# EAGLE library part XC6SLX9-3TQG144C (library Cynara-IntegratedCircuits)
Xilinx Spartan-6 in 144 pin Thin Quad Flat-Pack Package
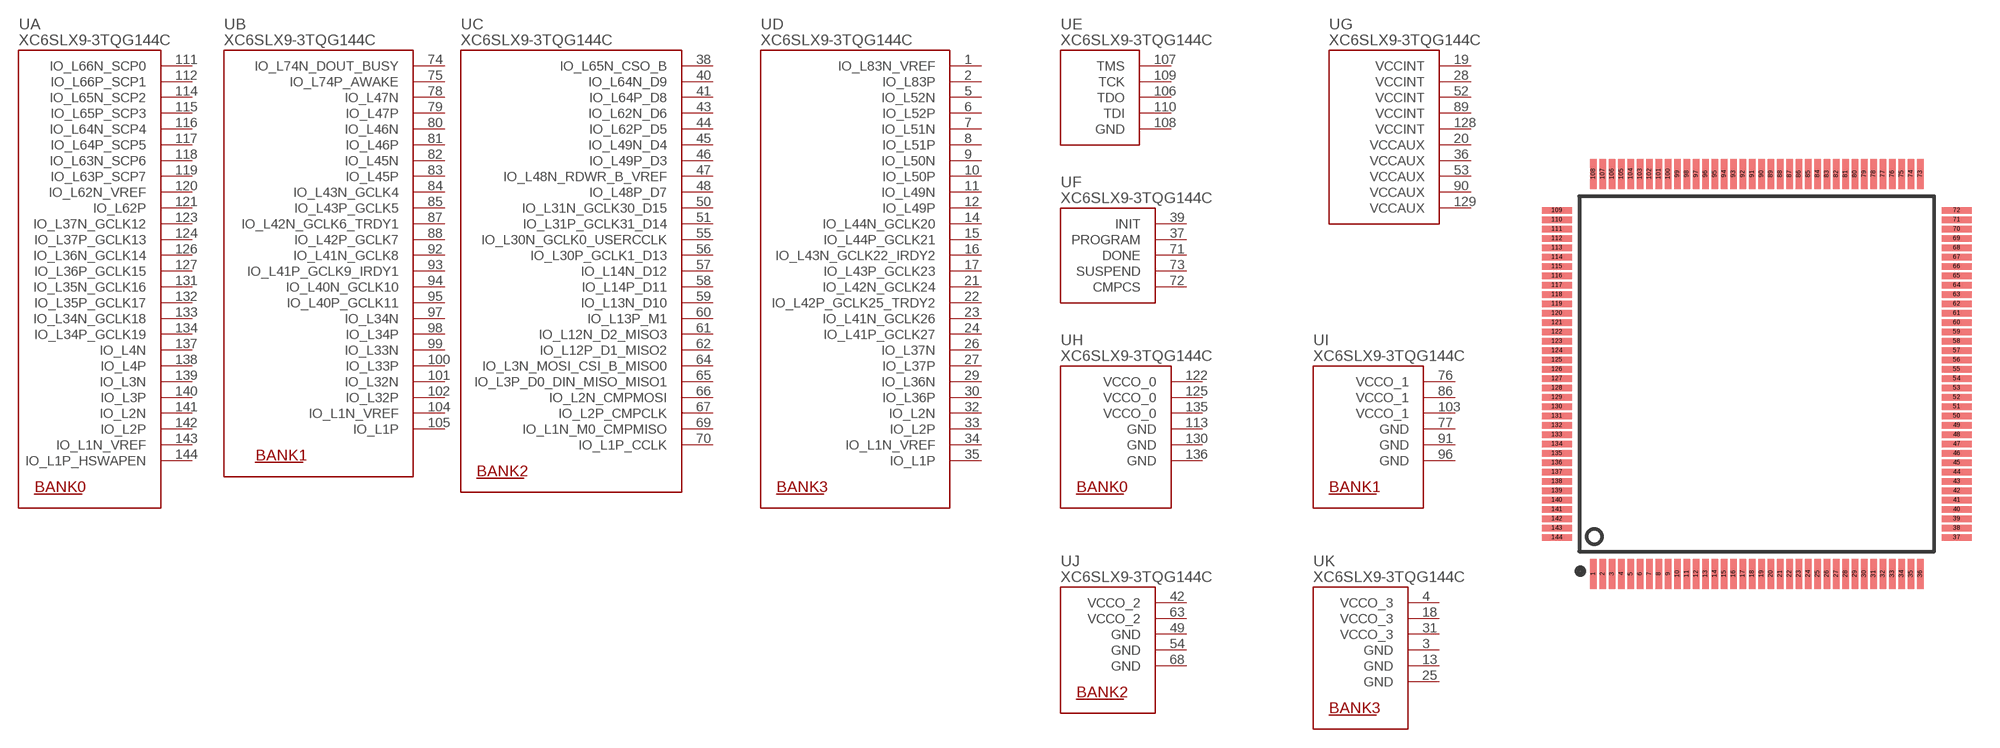
[diagram p1: symbol with the pads of TQG144; footprint TQG144]

Designator prefix U; gates G=XC6SLX[4,9]_144_POWER E=XC6SLX[4,9]_144_DEBUG A=XC6SLX[4,9]_144_BANK0 B=XC6SLX[4,9]_144_BANK1 C=XC6SLX[4,9]_144_BANK2 D=XC6SLX[4,9]_144_BANK3 F=XC6SLX[4,9]_144_CONTROL H=XC6SLX[4,9]_144_POWER0 I=XC6SLX[4,9]_144_POWER1 J=XC6SLX[4,9]_144_POWER2 K=XC6SLX[4,9]_144_POWER3

## XC6SLX9-3TQG144C (MANUFACTURER: Xilinx; MANUFACTURERPARTNO: XC6SLX9-3TQG144C; VALUE: XC6SLX9-3TQG)  [TQG144]
1  D:IO_L83N_VREF
2  D:IO_L83P
3  K:GND  pwr
4  K:VCCO_3  pwr
5  D:IO_L52N
6  D:IO_L52P
7  D:IO_L51N
8  D:IO_L51P
9  D:IO_L50N
10  D:IO_L50P
11  D:IO_L49N
12  D:IO_L49P
13  K:GND  pwr
14  D:IO_L44N_GCLK20
15  D:IO_L44P_GCLK21
16  D:IO_L43N_GCLK22_IRDY2
17  D:IO_L43P_GCLK23
18  K:VCCO_3  pwr
19  G:VCCINT  pwr
20  G:VCCAUX  pwr
21  D:IO_L42N_GCLK24
22  D:IO_L42P_GCLK25_TRDY2
23  D:IO_L41N_GCLK26
24  D:IO_L41P_GCLK27
25  K:GND  pwr
26  D:IO_L37N
27  D:IO_L37P
28  G:VCCINT  pwr
29  D:IO_L36N
30  D:IO_L36P
31  K:VCCO_3  pwr
32  D:IO_L2N
33  D:IO_L2P
34  D:IO_L1N_VREF
35  D:IO_L1P
36  G:VCCAUX  pwr
37  F:PROGRAM  in
38  C:IO_L65N_CSO_B
39  F:INIT
40  C:IO_L64N_D9
41  C:IO_L64P_D8
42  J:VCCO_2  pwr
43  C:IO_L62N_D6
44  C:IO_L62P_D5
45  C:IO_L49N_D4
46  C:IO_L49P_D3
47  C:IO_L48N_RDWR_B_VREF
48  C:IO_L48P_D7
49  J:GND  pwr
50  C:IO_L31N_GCLK30_D15
51  C:IO_L31P_GCLK31_D14
52  G:VCCINT  pwr
53  G:VCCAUX  pwr
54  J:GND  pwr
55  C:IO_L30N_GCLK0_USERCCLK
56  C:IO_L30P_GCLK1_D13
57  C:IO_L14N_D12
58  C:IO_L14P_D11
59  C:IO_L13N_D10
60  C:IO_L13P_M1
61  C:IO_L12N_D2_MISO3
62  C:IO_L12P_D1_MISO2
63  J:VCCO_2  pwr
64  C:IO_L3N_MOSI_CSI_B_MISO0
65  C:IO_L3P_D0_DIN_MISO_MISO1
66  C:IO_L2N_CMPMOSI
67  C:IO_L2P_CMPCLK
68  J:GND  pwr
69  C:IO_L1N_M0_CMPMISO
70  C:IO_L1P_CCLK
71  F:DONE  out
72  F:CMPCS
73  F:SUSPEND  in
74  B:IO_L74N_DOUT_BUSY
75  B:IO_L74P_AWAKE
76  I:VCCO_1  pwr
77  I:GND  pwr
78  B:IO_L47N
79  B:IO_L47P
80  B:IO_L46N
81  B:IO_L46P
82  B:IO_L45N
83  B:IO_L45P
84  B:IO_L43N_GCLK4
85  B:IO_L43P_GCLK5
86  I:VCCO_1  pwr
87  B:IO_L42N_GCLK6_TRDY1
88  B:IO_L42P_GCLK7
89  G:VCCINT  pwr
90  G:VCCAUX  pwr
91  I:GND  pwr
92  B:IO_L41N_GCLK8
93  B:IO_L41P_GCLK9_IRDY1
94  B:IO_L40N_GCLK10
95  B:IO_L40P_GCLK11
96  I:GND  pwr
97  B:IO_L34N
98  B:IO_L34P
99  B:IO_L33N
100  B:IO_L33P
101  B:IO_L32N
102  B:IO_L32P
103  I:VCCO_1  pwr
104  B:IO_L1N_VREF
105  B:IO_L1P
106  E:TDO
107  E:TMS
108  E:GND  pwr
109  E:TCK
110  E:TDI
111  A:IO_L66N_SCP0
112  A:IO_L66P_SCP1
113  H:GND  pwr
114  A:IO_L65N_SCP2
115  A:IO_L65P_SCP3
116  A:IO_L64N_SCP4
117  A:IO_L64P_SCP5
118  A:IO_L63N_SCP6
119  A:IO_L63P_SCP7
120  A:IO_L62N_VREF
121  A:IO_L62P
122  H:VCCO_0  pwr
123  A:IO_L37N_GCLK12
124  A:IO_L37P_GCLK13
125  H:VCCO_0  pwr
126  A:IO_L36N_GCLK14
127  A:IO_L36P_GCLK15
128  G:VCCINT  pwr
129  G:VCCAUX  pwr
130  H:GND  pwr
131  A:IO_L35N_GCLK16
132  A:IO_L35P_GCLK17
133  A:IO_L34N_GCLK18
134  A:IO_L34P_GCLK19
135  H:VCCO_0  pwr
136  H:GND  pwr
137  A:IO_L4N
138  A:IO_L4P
139  A:IO_L3N
140  A:IO_L3P
141  A:IO_L2N
142  A:IO_L2P
143  A:IO_L1N_VREF
144  A:IO_L1P_HSWAPEN

## Footprint TQG144 (pad centres in mm)
TQG144 Thin Quad Flat-Pack Package for Xilinx Spartan-6 FPGA
smd 0.35 x 1.6: 1 -8.35,-11.1; 2 -7.85,-11.1; 3 -7.35,-11.1; 4 -6.85,-11.1; 5 -6.35,-11.1; 6 -5.85,-11.1; 7 -5.35,-11.1; 8 -4.85,-11.1; 9 -4.35,-11.1; 10 -3.85,-11.1; 11 -3.35,-11.1; 12 -2.85,-11.1; 13 -2.35,-11.1; 14 -1.85,-11.1; 15 -1.35,-11.1; 16 -0.85,-11.1; 17 -0.35,-11.1; 18 0.15,-11.1; 19 0.65,-11.1; 20 1.15,-11.1; 21 1.65,-11.1; 22 2.15,-11.1; 23 2.65,-11.1; 24 3.15,-11.1; 25 3.65,-11.1; 26 4.15,-11.1; 27 4.65,-11.1; 28 5.15,-11.1; 29 5.65,-11.1; 30 6.15,-11.1; 31 6.65,-11.1; 32 7.15,-11.1; 33 7.65,-11.1; 34 8.15,-11.1; 35 8.65,-11.1; 36 9.15,-11.1; 73 9.15,10.3; 74 8.65,10.3; 75 8.15,10.3; 76 7.65,10.3; 77 7.15,10.3; 78 6.65,10.3; 79 6.15,10.3; 80 5.65,10.3; 81 5.15,10.3; 82 4.65,10.3; 83 4.15,10.3; 84 3.65,10.3; 85 3.15,10.3; 86 2.65,10.3; 87 2.15,10.3; 88 1.65,10.3; 89 1.15,10.3; 90 0.65,10.3; 91 0.15,10.3; 92 -0.35,10.3; 93 -0.85,10.3; 94 -1.35,10.3; 95 -1.85,10.3; 96 -2.35,10.3; 97 -2.85,10.3; 98 -3.35,10.3; 99 -3.85,10.3; 100 -4.35,10.3; 101 -4.85,10.3; 102 -5.35,10.3; 103 -5.85,10.3; 104 -6.35,10.3; 105 -6.85,10.3; 106 -7.35,10.3; 107 -7.85,10.3; 108 -8.35,10.3
smd 1.6 x 0.35: 37 11.1,-9.15; 38 11.1,-8.65; 39 11.1,-8.15; 40 11.1,-7.65; 41 11.1,-7.15; 42 11.1,-6.65; 43 11.1,-6.15; 44 11.1,-5.65; 45 11.1,-5.15; 46 11.1,-4.65; 47 11.1,-4.15; 48 11.1,-3.65; 49 11.1,-3.15; 50 11.1,-2.65; 51 11.1,-2.15; 52 11.1,-1.65; 53 11.1,-1.15; 54 11.1,-0.65; 55 11.1,-0.15; 56 11.1,0.35; 57 11.1,0.85; 58 11.1,1.35; 59 11.1,1.85; 60 11.1,2.35; 61 11.1,2.85; 62 11.1,3.35; 63 11.1,3.85; 64 11.1,4.35; 65 11.1,4.85; 66 11.1,5.35; 67 11.1,5.85; 68 11.1,6.35; 69 11.1,6.85; 70 11.1,7.35; 71 11.1,7.85; 72 11.1,8.35; 109 -10.3,8.35; 110 -10.3,7.85; 111 -10.3,7.35; 112 -10.3,6.85; 113 -10.3,6.35; 114 -10.3,5.85; 115 -10.3,5.35; 116 -10.3,4.85; 117 -10.3,4.35; 118 -10.3,3.85; 119 -10.3,3.35; 120 -10.3,2.85; 121 -10.3,2.35; 122 -10.3,1.85; 123 -10.3,1.35; 124 -10.3,0.85; 125 -10.3,0.35; 126 -10.3,-0.15; 127 -10.3,-0.65; 128 -10.3,-1.15; 129 -10.3,-1.65; 130 -10.3,-2.15; 131 -10.3,-2.65; 132 -10.3,-3.15; 133 -10.3,-3.65; 134 -10.3,-4.15; 135 -10.3,-4.65; 136 -10.3,-5.15; 137 -10.3,-5.65; 138 -10.3,-6.15; 139 -10.3,-6.65; 140 -10.3,-7.15; 141 -10.3,-7.65; 142 -10.3,-8.15; 143 -10.3,-8.65; 144 -10.3,-9.15